# Altium footprint library 31_lib.PcbLib: 49 footprints (part 1 of 4)
Each footprint in its own frame and in the unit in brackets; x right, y up, seen from the top. Pads: shape width x height; smd on the part's side, far side on the other; paste and mask are expansions set on the pad; w line width, h text height; cw(c..) or ccw(c..) is an arc to the next point about the centre after c.
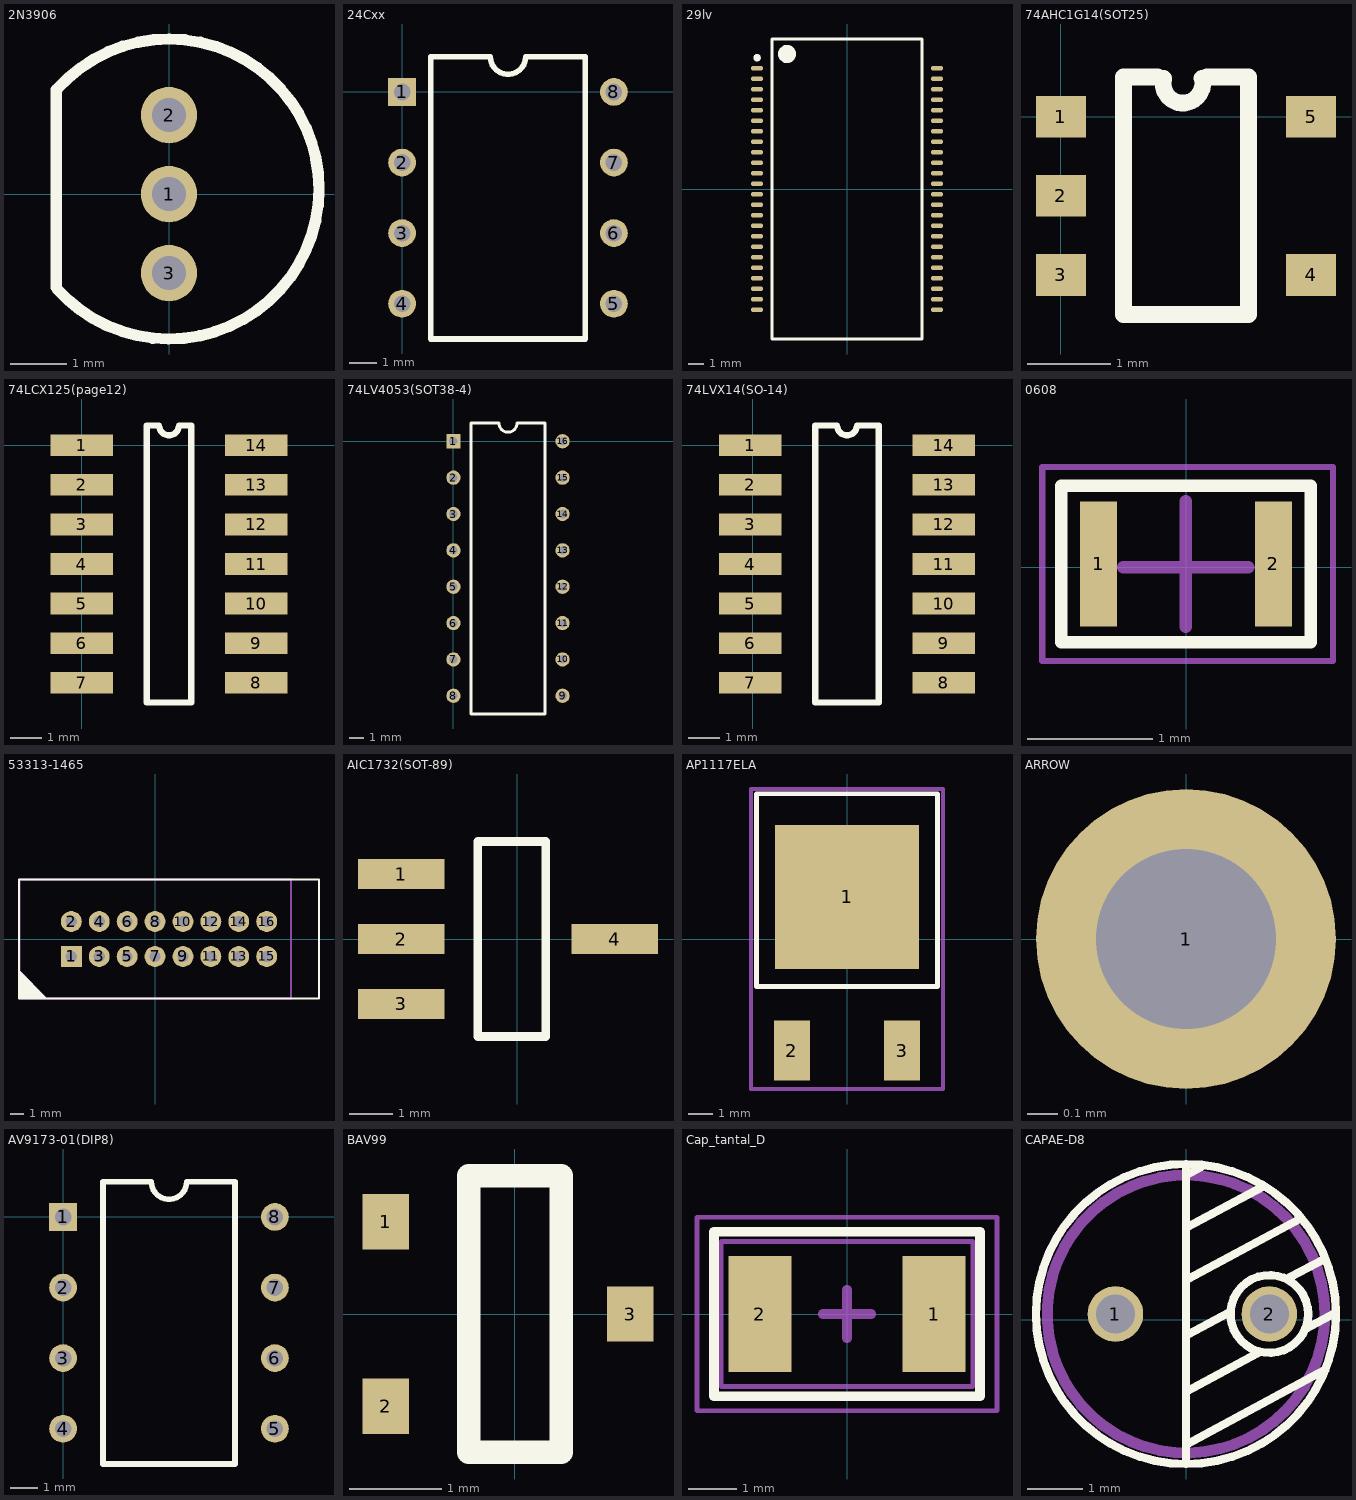
[diagram p0: the footprints below, top view; thin cyan lines are the x and y axes]

## 2N3906 [mm]
pads (3):
  round 1 hole 0.6: 1(0,0) 2(0,1.4) 3(0,-1.4)
Top Overlay:
  lines w0.2: -2,-1.65 -2,1.85 ; -1.985,-1.681 ccw(c0,0.09) -1.975,1.872

## 24Cxx [mm]
pads (8):
  rect 1x1 hole 0.6: 1(0,0)
  round 1 hole 0.6: 2(0,-2.54) 3(0,-5.08) 4(0,-7.62) 5(7.62,-7.62) 6(7.62,-5.08) 7(7.62,-2.54) 8(7.62,0)
Top Overlay:
  lines w0.2: 1.035,-8.89 1.035,1.27 3.175,1.27 ccw(c3.81,1.27) 4.445,1.27 6.585,1.27 6.585,-8.89 1.035,-8.89

## 29lv [mm]
height 3
pads (48):
  oval 0.8x0.3 smd: 1(-6,8.05) 2(-6,7.35) 3(-6,6.65) 4(-6,5.95) 5(-6,5.25) 6(-6,4.55) 7(-6,3.85) 8(-6,3.15) 9(-6,2.45) 10(-6,1.75) 11(-6,1.05) 12(-6,0.35) 13(-6,-0.35) 14(-6,-1.05) 15(-6,-1.75) 16(-6,-2.45) 17(-6,-3.15) 18(-6,-3.85) 19(-6,-4.55) 20(-6,-5.25) 21(-6,-5.95) 22(-6,-6.65) 23(-6,-7.35) 24(-6,-8.05) 25(6,-8.05) 26(6,-7.35) 27(6,-6.65) 28(6,-5.95) 29(6,-5.25) 30(6,-4.55) 31(6,-3.85) 32(6,-3.15) 33(6,-2.45) 34(6,-1.75) 35(6,-1.05) 36(6,-0.35) 37(6,0.35) 38(6,1.05) 39(6,1.75) 40(6,2.45) 41(6,3.15) 42(6,3.85) 43(6,4.55) 44(6,5.25) 45(6,5.95) 46(6,6.65) 47(6,7.35) 48(6,8.05)
Top Overlay:
  circle w0.25: c-6,8.75 r0.125
  circle w0.6: c-4,9 r0.3
  lines w0.2: -5,-10 -5,10 5,10 5,-10 -5,-10
3D body: height 3, standoff 0.3, extent -5,-10 5,10

## 74AHC1G14(SOT25) [mm]
pads (5):
  rect 0.6x0.5 smd: 1(0,0) 2(0,-0.95) 3(0,-1.9) 4(3,-1.9) 5(3,0)
Top Overlay:
  lines w0.2: 1.162,0.475 0.75,0.475 0.75,-2.375 2.25,-2.375 2.25,0.475 1.75,0.475 ; 1.232,0.458 ccw(c1.462,0.4) 1.692,0.46

## 74LCX125(page12) [mm]
pads (14):
  rect 2x0.7 smd: 1(0,0) 2(0,-1.27) 3(0,-2.54) 4(0,-3.81) 5(0,-5.08) 6(0,-6.35) 7(0,-7.62) 8(5.6,-7.62) 9(5.6,-6.35) 10(5.6,-5.08) 11(5.6,-3.81) 12(5.6,-2.54) 13(5.6,-1.27) 14(5.6,0)
Top Overlay:
  lines w0.2: 2.085,-8.255 2.085,0.635 2.482,0.635 ccw(c2.8,0.635) 3.117,0.635 3.515,0.635 3.515,-8.255 2.085,-8.255

## 74LV4053(SOT38-4) [mm]
pads (16):
  rect 1x1 hole 0.6: 1(0,0)
  round 1 hole 0.6: 2(0,-2.54) 3(0,-5.08) 4(0,-7.62) 5(0,-10.16) 6(0,-12.7) 7(0,-15.24) 8(0,-17.78) 9(7.62,-17.78) 10(7.62,-15.24) 11(7.62,-12.7) 12(7.62,-10.16) 13(7.62,-7.62) 14(7.62,-5.08) 15(7.62,-2.54) 16(7.62,0)
Top Overlay:
  lines w0.2: 1.215,-19.05 6.405,-19.05 6.405,1.27 4.445,1.27 cw(c3.81,1.27) 3.175,1.27 1.215,1.27 1.215,-19.05

## 74LVX14(SO-14) [mm]
pads (14):
  rect 2x0.7 smd: 1(-0.085,0) 2(-0.085,-1.27) 3(-0.085,-2.54) 4(-0.085,-3.81) 5(-0.085,-5.08) 6(-0.085,-6.35) 7(-0.085,-7.62) 8(6.115,-7.62) 9(6.115,-6.35) 10(6.115,-5.08) 11(6.115,-3.81) 12(6.115,-2.54) 13(6.115,-1.27) 14(6.115,0)
Top Overlay:
  lines w0.2: 2,-8.255 2,0.635 2.697,0.635 ccw(c3.015,0.635) 3.332,0.635 4.03,0.635 4.03,-8.255 2,-8.255

## 0608 [mm]
pads (2):
  rect 0.3x1 smd: 1(-0.7,0.025) 2(0.7,0.025)
Top Overlay:
  lines w0.1: -1,-0.6 1,-0.6 1,0.65 -1,0.65 -1,-0.6
Mechanical 15:
  lines w0.05: -1.15,-0.75 -1.15,0.8 1.175,0.8 1.175,-0.75 -1.15,-0.75
  lines w0.1: -0.5,0 0.5,0 ; 0,-0.475 0,0.525
3D body: height 0.6, standoff 0, extent -1,-0.6 1,0.65

## 53313-1465 [mm]
height 7
pads (16):
  rect 1.5x1.5 hole 0.8: 1(-6,-1.25)
  round 1.5 hole 0.8: 2(-6,1.25) 3(-4,-1.25) 4(-4,1.25) 5(-2,-1.25) 6(-2,1.25) 7(0,-1.25) 8(0,1.25) 9(2,-1.25) 10(2,1.25) 11(4,-1.25) 12(4,1.25) 13(6,-1.25) 14(6,1.25) 15(8,-1.25) 16(8,1.25)
Top Overlay:
  region: -9.75,-2.25 -9.75,-4.25 -7.75,-4.25
  lines w0.15: -9.75,-4.25 -9.75,4.25 11.75,4.25 11.75,-4.25 -9.75,-4.25
Mechanical 29:
  region: -9.7,-2.257 -9.7,-4.25 -7.764,-4.25
  lines w0.15: -9.7,-4.25 9.75,-4.25 9.75,4.25 -9.7,4.25 -9.7,-4.25
  text ".Designator" at -3.5,-0.3 h1
3D body: height 6.75, standoff -3.25, extent -9.75,-4.25 9.65,4.25
3D body: height 10.25, standoff 0.25, extent -7.65,-4.25 11.75,4.25

## AIC1732(SOT-89) [mm]
pads (4):
  rect 2x0.7 smd: 1(-2.675,1.5) 2(-2.675,0) 3(-2.675,-1.5) 4(2.25,0)
Top Overlay:
  lines w0.2: -0.5,2.25 0.66,2.25 0.66,-2.25 -0.91,-2.25 -0.91,2.25 0.25,2.25

## AP1117ELA [mm]
pads (3):
  rect 6x6 smd: 1(0,1.75)
  rect 1.5x2.5 smd: 2(-2.3,-4.65) 3(2.3,-4.65)
Top Overlay:
  lines w0.2: -3.775,-1.975 0,-1.975 3.775,-1.975 3.775,6.05 -3.775,6.05 -3.775,-1.975
  text "." at -3.6,-4.7 h0.1
Top Solder:
  rectangle: -3,2 -0.25,4.75
  rectangle: 0.25,2 3,4.75
  region: -0.25,1.5 -3,1.5 -3,-1.25 -0.25,-1.25
  region: 0.25,1.5 0.25,-1.25 3,-1.25 3,1.5
Mechanical 15:
  lines w0.15: -0.5,0 0.5,0 ; 0,-0.5 0,0.5 ; -4,-6.25 -4,6.25 4,6.25 4,-6.25 -4,-6.25
3D body: height 2.3, standoff 0, extent -3.222,-4.875 3.272,4.625

## ARROW [mm]
pads (1):
  round 1 hole 0.6: 1(0,0)

## AV9173-01(DIP8) [mm]
pads (8):
  rect 1x1 hole 0.6: 1(0,0)
  round 1 hole 0.6: 2(0,-2.54) 3(0,-5.08) 4(0,-7.62) 5(7.62,-7.62) 6(7.62,-5.08) 7(7.62,-2.54) 8(7.62,0)
Top Overlay:
  lines w0.2: 1.435,-8.89 6.185,-8.89 6.185,1.27 4.445,1.27 cw(c3.81,1.27) 3.175,1.27 1.435,1.27 1.435,-8.89

## BAV99 [mm]
pads (3):
  rect 0.5x0.6 smd: 1(-1.4,1) 2(-1.4,-1) 3(1.25,0)
Top Overlay:
  lines w0.254: -0.5,-1.5 -0.5,1.5 0.5,1.5 0.5,0.5 0.5,-1.5 -0.5,-1.5

## Cap_tantal_D [mm]
pads (2):
  rect 1.3x2.4 smd: 1(1.8,0) 2(-1.8,0)
Top Overlay:
  lines w0.2: -2.75,-1.7 -2.75,1.7 2.75,1.7 2.75,-1.7 -2.75,-1.7
Mechanical 13:
  lines w0.1: -2.6,-1.5 -2.6,1.5 2.6,1.5 2.6,-1.5 -2.6,-1.5
Mechanical 15:
  lines w0.1: -3.1,-2 -3.1,2 3.1,2 3.1,-2 -3.1,-2
  lines w0.2: -0.5,0 0.5,0 ; 0,-0.5 0,0.5

## CAPAE-D8 [mm]
pads (2):
  round 1 hole 0.7: 1(-1.27,0.1) 2(1.5,0.1)
Top Overlay:
  circle w0.15: c0,0.1 r2.7
  circle w0.15: c1.5,0.1 r0.7
  lines w0.15: 0,-2.6 0,2.8 ; 0,-2.25 2.504,-0.907 ; 0,-1.3 1.286,-0.61 ; 0,1.65 1.399,2.401 ; 0,2.6 0.28,2.75 ; 0.025,-0.275 0.783,0.132 ; 0.025,0.725 2.048,1.811 ; 1.868,0.759 2.501,1.098 ; 2.141,-0.176 2.69,0.119
Mechanical 2:
  circle w0.2: c0,0.1 r2.5